# EAGLE library part LT1512 (library omcPwrSupply)
Linear Technology - LT1512 - SEPIC Constant-Current/Constant-Voltage Battery Charger Charger Input Voltage May Be Higher, Equal to or Lower Than Battery Voltage Charges Any Number of Cells Up to 30V* 1% Voltage Accuracy for Rechargeable Lithium Batteries 500kHz Switching Frequency Minimizes Inductor Size 100mV Current Sense Voltage for High Efficiency Battery Can Be Directly Grounded Charging Current Easily Programmable or Shut Down Datasheet: Linear Technology <https://www.analog.com/media/en/technical-documentation/data-sheets/1512fc.pdf> Reichelt <https://cdn-reichelt.de/documents/datenblatt/A200/LT1512_ENG_TDS.pdf>
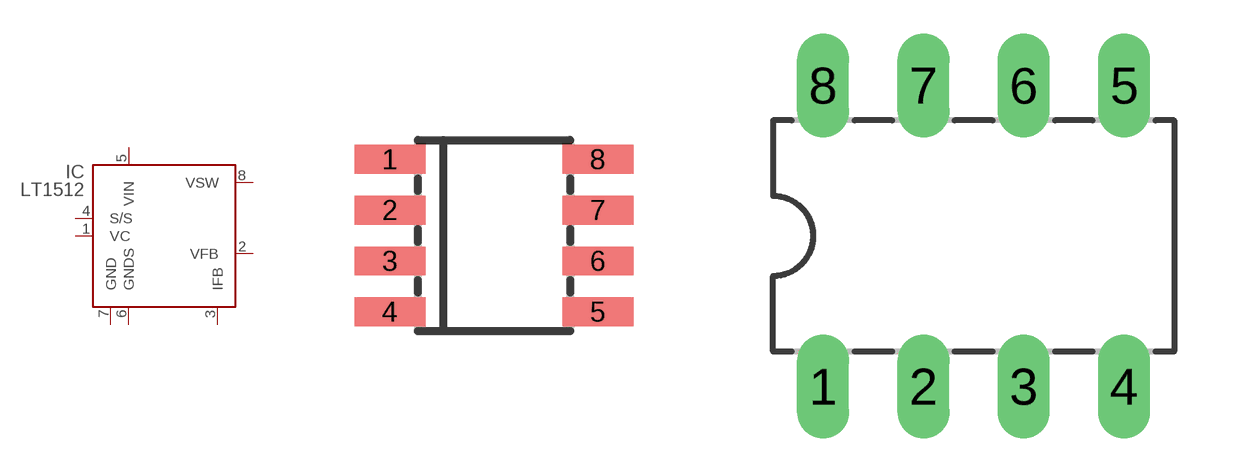
[diagram p8: symbol with the pads of SOIC08; footprints SOIC08, DIL08]

Designator prefix IC

## LT1512XS8 (VALUE: LT1512)  [SOIC08]
1  VC  pas
2  VFB  pas
3  IFB  pas
4  S/S  pas
5  VIN  in
6  GNDS  pwr
7  GND  pwr
8  VSW  out

## LT1512XN8 (DIST#REICHELT#: LT 1512CN8; VALUE: LT1512)  [DIL08]
Pads as for SOIC08

## Footprint SOIC08 (pad centres in mm)
SOIC08 SOIC-8 SMD 5mm×6.2mm Wikipedia <https://en.wikipedia.org/wiki/Small_Outline_Integrated_Circuit>
smd 1.78 x 0.72: 1 -2.6,1.905; 2 -2.6,0.635; 3 -2.6,-0.635; 4 -2.6,-1.905; 5 2.6,-1.905; 6 2.6,-0.635; 7 2.6,0.635; 8 2.6,1.905

## Footprint DIL08 (pad centres in mm)
DIL8 Dual-in-line package THT 10.16mm×7.62mm Wikipedia <https://en.wikipedia.org/wiki/Dual_in-line_package>
drill 0.813 long: 1 -3.81,-3.81; 2 -1.27,-3.81; 3 1.27,-3.81; 4 3.81,-3.81; 5 3.81,3.81; 6 1.27,3.81; 7 -1.27,3.81; 8 -3.81,3.81